# EAGLE library part LSA-PLUS_8-568B (library con-kone LSA)
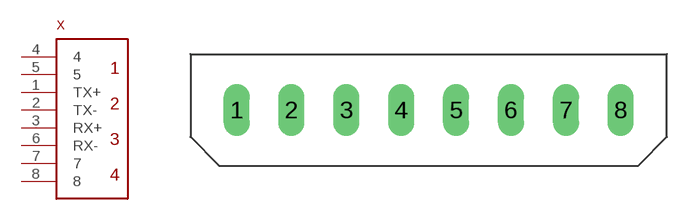
[diagram p2: symbol with the pads of LSA8; footprint LSA8]

Designator prefix X

## LSA-PLUS_8-568B  [LSA8]
1  TX+
2  TX-
3  RX+
4  4
5  5
6  RX-
7  7
8  8

## Footprint LSA8 (pad centres in mm)
drill 1.2 long: 1 -13.335,0; 2 -9.525,0; 3 -5.715,0; 4 -1.905,0; 5 1.905,0; 6 5.715,0; 7 9.525,0; 8 13.335,0